# EAGLE library part HX711 (library loadcell)
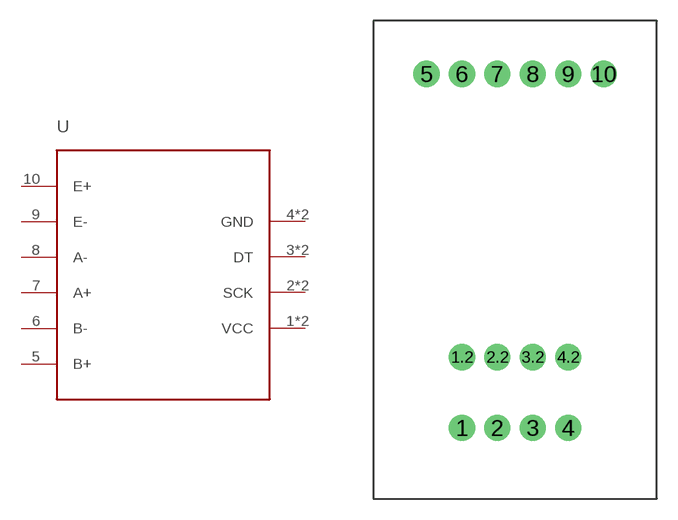
[diagram p0: symbol with the pads of HX711; footprint HX711]

Designator prefix -

## HX711  [HX711]
1  VCC  pwr
1.2  VCC  pwr
2  SCK  out
2.2  SCK  out
3  DT  out
3.2  DT  out
4  GND  pwr
4.2  GND  pwr
5  B+  in
6  B-  in
7  A+  in
8  A-  in
9  E-  in
10  E+  in

## Footprint HX711 (pad centres in mm)
drill 1.016 pad 1.88: 1 6.35,5.08; 1.2 6.35,10.16; 2 8.89,5.08; 2.2 8.89,10.16; 3 11.43,5.08; 3.2 11.43,10.16; 4 13.97,5.08; 4.2 13.97,10.16; 5 3.81,30.48; 6 6.35,30.48; 7 8.89,30.48; 8 11.43,30.48; 9 13.97,30.48; 10 16.51,30.48